# Altium schematic symbol library AD7124-8BCPZ.SchLib: 1 symbol
Pins are listed as number, name and electrical type; pins without a type are passive.

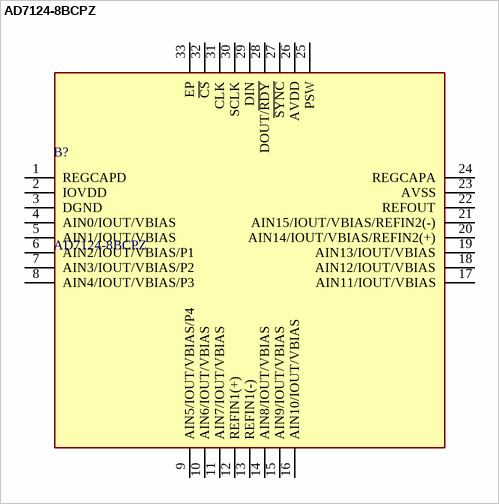
[diagram p0: symbol AD7124-8BCPZ]

## AD7124-8BCPZ
designator B?
8-Channel, Low Noise, Low Power, 24-Bit, Sigma-Delta ADC with PGA and Reference; Manufacturer_Name: Analog Devices; Geometry.Height: 0.8mm; Mouser Part Number: 584-AD7124-8BCPZ; Mouser Price/Stock: https://www.mouser.co.uk/ProductDetail/Analog-Devices/AD7124-8BCPZ?qs=Ky1INM14uHrhdeD2dxIX6Q%3D%3D; Manufacturer_Part_Number: AD7124-8BCPZ; Datasheet Link: https://www.analog.com/AD7124-8/datasheet
footprint QFN50P500X500X80-33N-D
pins: 1 REGCAPD, 2 IOVDD, 3 DGND, 4 AIN0/IOUT/VBIAS, 5 AIN1/IOUT/VBIAS, 6 AIN2/IOUT/VBIAS/P1, 7 AIN3/IOUT/VBIAS/P2, 8 AIN4/IOUT/VBIAS/P3, 9 AIN5/IOUT/VBIAS/P4, 10 AIN6/IOUT/VBIAS, 11 AIN7/IOUT/VBIAS, 12 REFIN1(+), 13 REFIN1(-), 14 AIN8/IOUT/VBIAS, 15 AIN9/IOUT/VBIAS, 16 AIN10/IOUT/VBIAS, 17 AIN11/IOUT/VBIAS, 18 AIN12/IOUT/VBIAS, 19 AIN13/IOUT/VBIAS, 20 AIN14/IOUT/VBIAS/REFIN2(+), 21 AIN15/IOUT/VBIAS/REFIN2(-), 22 REFOUT, 23 AVSS, 24 REGCAPA, 25 PSW, 26 AVDD, 27 ~{SYNC}, 28 DOUT/~{RDY}, 29 DIN, 30 SCLK, 31 CLK, 32 ~{CS}, 33 EP